# EAGLE library part VDEC-HIT18* (library mita-akiba)
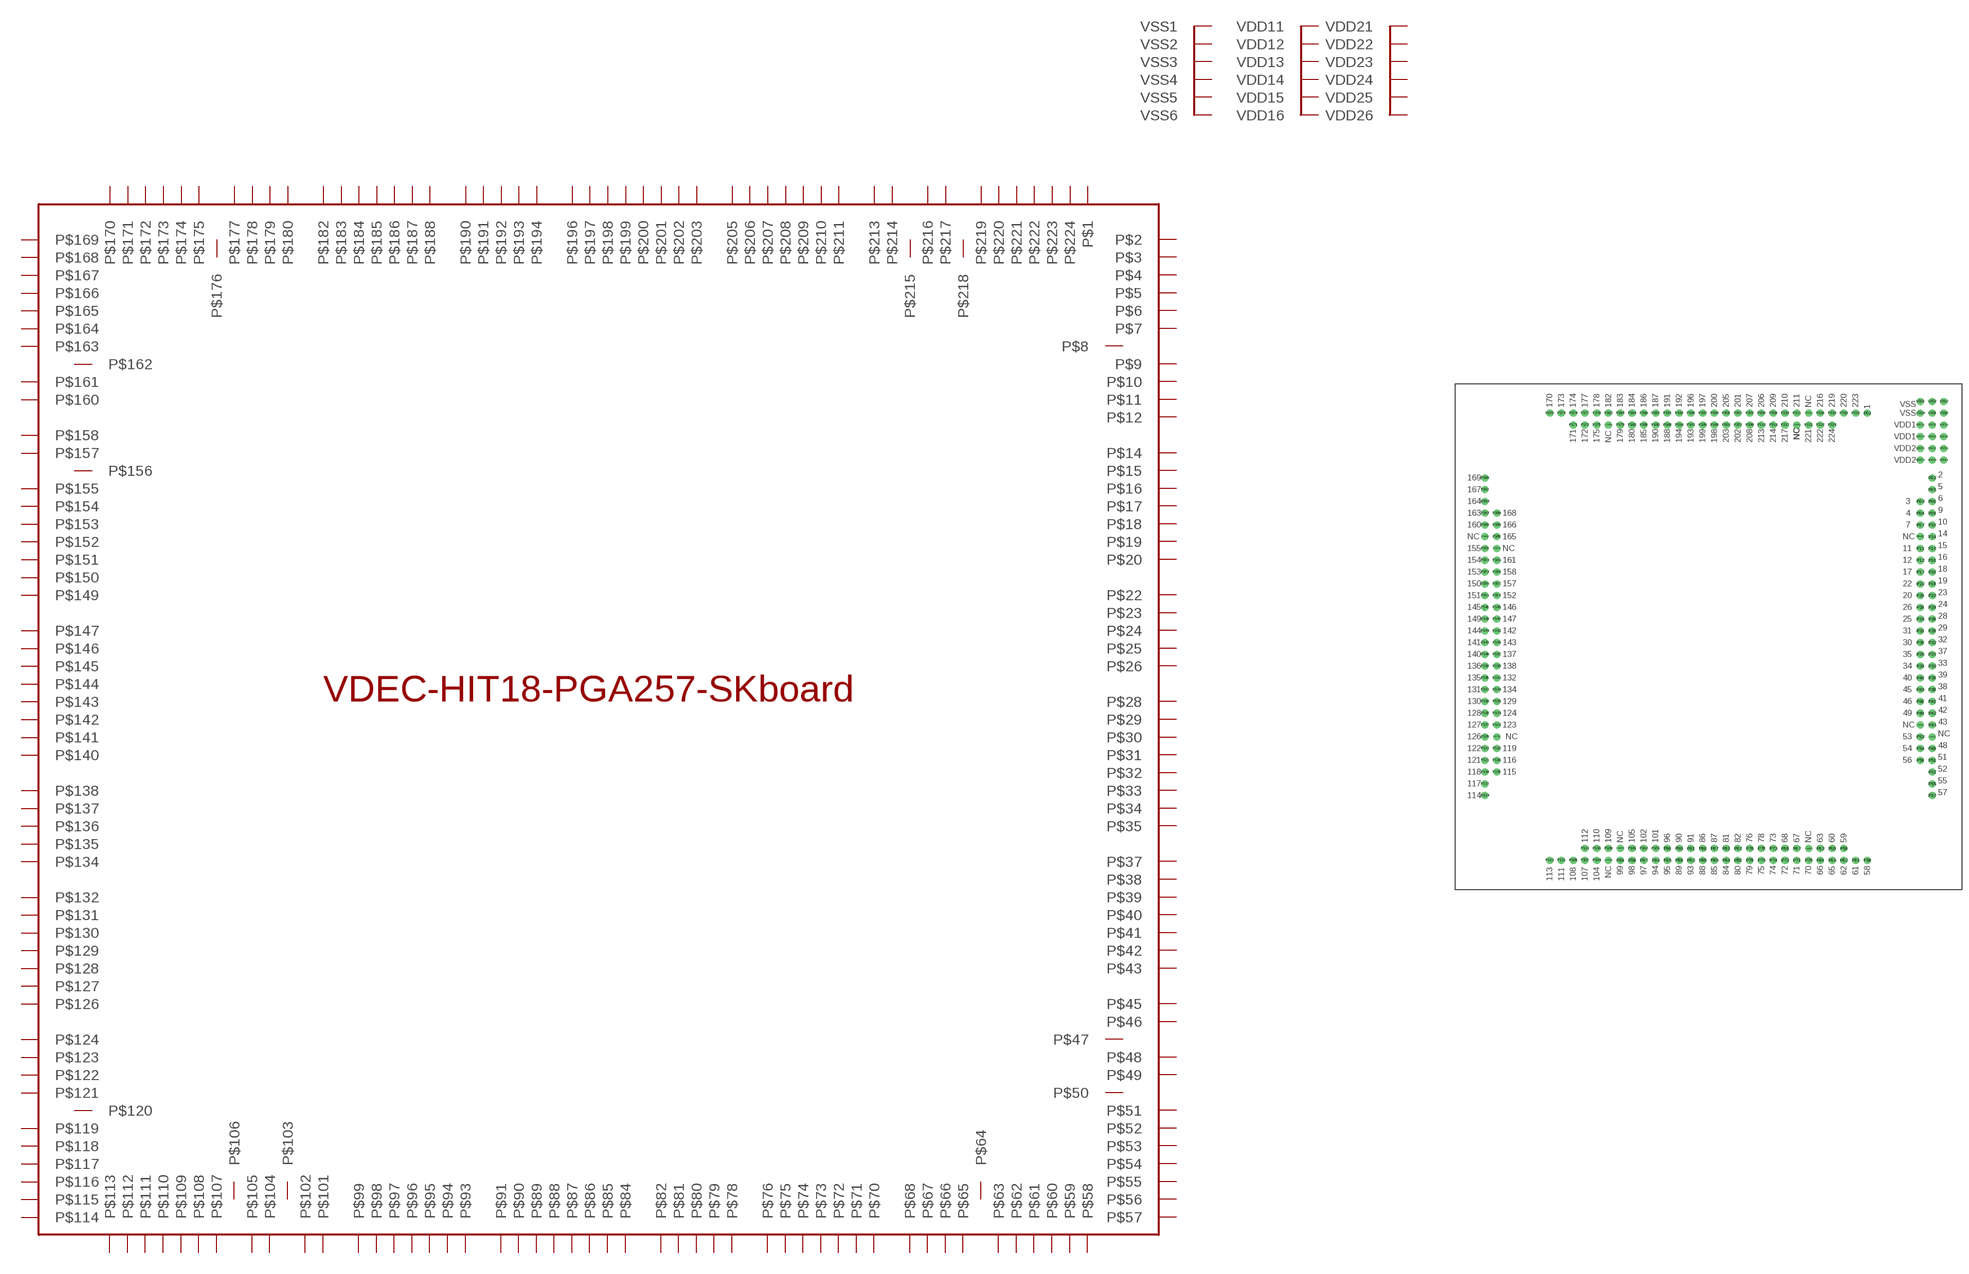
[diagram p37: symbol with the pads of VDEC-HIT18-257PGA-SK; footprint VDEC-HIT18-257PGA-SK]

Designator prefix -

## VDEC-HIT18PGA257-SK  [VDEC-HIT18-257PGA-SK]
P01  P$1
P02  P$2
P03  P$3
P04  P$4
P05  P$5
P06  P$6
P07  P$7
P8-NC  P$8  oc
P09  P$9
P10  P$10
P11  P$11
P12  P$12
P14  P$14
P15  P$15  oc
P16  P$16  oc
P17  P$17  oc
P18  P$18  oc
P19  P$19  oc
P20  P$20  oc
P22  P$22  oc
P23  P$23  oc
P24  P$24  oc
P25  P$25  oc
P26  P$26  oc
P28  P$28  oc
P29  P$29  oc
P30  P$30  oc
P31  P$31  oc
P32  P$32  oc
P33  P$33  oc
P34  P$34  oc
P35  P$35  oc
P37  P$37  oc
P38  P$38  oc
P39  P$39  oc
P40  P$40  oc
P41  P$41  oc
P42  P$42  oc
P43  P$43  oc
P45  P$45  oc
P46  P$46  oc
P47-NC  P$47  oc
P48  P$48  oc
P49  P$49  oc
P50-NC  P$50  oc
P51  P$51  oc
P52  P$52  oc
P53  P$53  oc
P54  P$54  oc
P55  P$55  oc
P56  P$56  oc
P57  P$57  oc
P58  P$58  oc
P59  P$59  oc
P60  P$60  oc
P61  P$61  oc
P62  P$62  oc
P63  P$63  oc
P64-NC  P$64  oc
P65  P$65  oc
P66  P$66  oc
P67  P$67  oc
P68  P$68  oc
P70  P$70  oc
P71  P$71  oc
P72  P$72  oc
P73  P$73  oc
P74  P$74  oc
P75  P$75  oc
P76  P$76  oc
P78  P$78  oc
P79  P$79  oc
P80  P$80  oc
P81  P$81  oc
P82  P$82  oc
P84  P$84  oc
P85  P$85  oc
P86  P$86  oc
P87  P$87  oc
P88  P$88  oc
P89  P$89  oc
P90  P$90  oc
P91  P$91  oc
P93  P$93  oc
P94  P$94  oc
P95  P$95  oc
P96  P$96  oc
P97  P$97  oc
P98  P$98  oc
P99  P$99  oc
P101  P$101  oc
P102  P$102  oc
P103-NC  P$103  oc
P104  P$104  oc
P105  P$105  oc
P106-NC  P$106  oc
P107  P$107  oc
P108  P$108  oc
P109  P$109  oc
P110  P$110  oc
P111  P$111  oc
P112  P$112  oc
P113  P$113  oc
P114  P$114  oc
P115  P$115  oc
P116  P$116  oc
P117  P$117  oc
P118  P$118  oc
P119  P$119  oc
P120-NC  P$120  oc
P121  P$121  oc
P122  P$122  oc
P123  P$123  oc
P124  P$124  oc
P126  P$126  oc
P127  P$127  oc
P128  P$128  oc
P129  P$129  oc
P130  P$130  oc
P131  P$131  oc
P132  P$132  oc
P134  P$134  oc
P135  P$135  oc
P136  P$136  oc
P137  P$137  oc
P138  P$138  oc
P140  P$140  oc
P141  P$141  oc
P142  P$142  oc
P143  P$143  oc
P144  P$144  oc
P145  P$145  oc
P146  P$146  oc
P147  P$147  oc
P149  P$149  oc
P150  P$150  oc
P151  P$151  oc
P152  P$152  oc
P153  P$153  oc
P154  P$154  oc
P155  P$155  oc
P156-NC  P$156  oc
P157  P$157  oc
P158  P$158  oc
P160  P$160  oc
P161  P$161  oc
P162-NC  P$162  oc
P163  P$163  oc
P164  P$164  oc
P165  P$165  oc
P166  P$166  oc
P167  P$167  oc
P168  P$168  oc
P169  P$169  oc
P170  P$170  oc
P171  P$171  oc
P172  P$172  oc
P173  P$173  oc
P174  P$174  oc
P175  P$175  oc
P176-NC  P$176  oc
P177  P$177  oc
P178  P$178  oc
P179  P$179  oc
P180  P$180  oc
P182  P$182  oc
P183  P$183  oc
P184  P$184  oc
P185  P$185  oc
P186  P$186  oc
P187  P$187  oc
P188  P$188  oc
P190  P$190  oc
P191  P$191  oc
P192  P$192  oc
P193  P$193  oc
P194  P$194  oc
P196  P$196  oc
P197  P$197  oc
P198  P$198  oc
P199  P$199  oc
P200  P$200  oc
P201  P$201  oc
P202  P$202  oc
P203  P$203  oc
P205  P$205  oc
P206  P$206  oc
P207  P$207  oc
P208  P$208  oc
P209  P$209  oc
P210  P$210  oc
P211  P$211  oc
P213  P$213  oc
P214  P$214  oc
P215-NC  P$215  oc
P216  P$216  oc
P217  P$217  oc
P218-NC  P$218  oc
P219  P$219  oc
P220  P$220  oc
P221  P$221  oc
P222  P$222  oc
P223  P$223  oc
P224  P$224  oc
VDD11  VDD11
VDD12  VDD12
VDD13  VDD13  oc
VDD14  VDD14  oc
VDD15  VDD15  oc
VDD16  VDD16  oc
VDD21  VDD21  oc
VDD22  VDD22  oc
VDD23  VDD23  oc
VDD24  VDD24  oc
VDD25  VDD25  oc
VDD26  VDD26  oc
VSS1  VSS1
VSS2  VSS2
VSS3  VSS3
VSS4  VSS4
VSS5  VSS5
VSS6  VSS6

## Footprint VDEC-HIT18-257PGA-SK (pad centres in mm)
HIT18 257PGA VDEC Standard pitch conversion board
drill 1.016: P01 34.29,48.26; P02 48.26,34.29; P03 45.72,29.21; P04 45.72,26.67; P05 48.26,31.75; P06 48.26,29.21; P07 45.72,24.13; P8-NC 45.72,21.59; P09 48.26,26.67; P10 48.26,24.13; P11 45.72,19.05; P12 45.72,16.51; P14 48.26,21.59; P15 48.26,19.05; P16 48.26,16.51; P17 45.72,13.97; P18 48.26,13.97; P19 48.26,11.43; P20 45.72,8.89; P22 45.72,11.43; P23 48.26,8.89; P24 48.26,6.35; P25 45.72,3.81; P26 45.72,6.35; P28 48.26,3.81; P29 48.26,1.27; P30 45.72,-1.27; P31 45.72,1.27; P32 48.26,-1.27; P33 48.26,-6.35; P34 45.72,-6.35; P35 45.72,-3.81; P37 48.26,-3.81; P38 48.26,-11.43; P39 48.26,-8.89; P40 45.72,-8.89; P41 48.26,-13.97; P42 48.26,-16.51; P43 48.26,-19.05; P45 45.72,-11.43; P46 45.72,-13.97; P47-NC 48.26,-21.59; P48 48.26,-24.13; P49 45.72,-16.51; P50-NC 45.72,-19.05; P51 48.26,-26.67; P52 48.26,-29.21; P53 45.72,-21.59; P54 45.72,-24.13; P55 48.26,-31.75; P56 45.72,-26.67; P57 48.26,-34.29; P58 34.29,-48.26; P59 29.21,-45.72; P60 26.67,-45.72; P61 31.75,-48.26; P62 29.21,-48.26; P63 24.13,-45.72; P64-NC 21.59,-45.72; P65 26.67,-48.26; P66 24.13,-48.26; P67 19.05,-45.72; P68 16.51,-45.72; P70 21.59,-48.26; P71 19.05,-48.26; P72 16.51,-48.26; P73 13.97,-45.72; P74 13.97,-48.26; P75 11.43,-48.26; P76 8.89,-45.72; P78 11.43,-45.72; P79 8.89,-48.26; P80 6.35,-48.26; P81 3.81,-45.72; P82 6.35,-45.72; P84 3.81,-48.26; P85 1.27,-48.26; P86 -1.27,-45.72; P87 1.27,-45.72; P88 -1.27,-48.26; P89 -6.35,-48.26; P90 -6.35,-45.72; P91 -3.81,-45.72; P93 -3.81,-48.26; P94 -11.43,-48.26; P95 -8.89,-48.26; P96 -8.89,-45.72; P97 -13.97,-48.26; P98 -16.51,-48.26; P99 -19.05,-48.26; P101 -11.43,-45.72; P102 -13.97,-45.72; P103-NC -21.59,-48.26; P104 -24.13,-48.26; P105 -16.51,-45.72; P106-NC -19.05,-45.72; P107 -26.67,-48.26; P108 -29.21,-48.26; P109 -21.59,-45.72; P110 -24.13,-45.72; P111 -31.75,-48.26; P112 -26.67,-45.72; P113 -34.29,-48.26; P114 -48.26,-34.29; P115 -45.72,-29.21; P116 -45.72,-26.67; P117 -48.26,-31.75; P118 -48.26,-29.21; P119 -45.72,-24.13; P120-NC -45.72,-21.59; P121 -48.26,-26.67; P122 -48.26,-24.13; P123 -45.72,-19.05; P124 -45.72,-16.51; P126 -48.26,-21.59; P127 -48.26,-19.05; P128 -48.26,-16.51; P129 -45.72,-13.97; P130 -48.26,-13.97; P131 -48.26,-11.43; P132 -45.72,-8.89; P134 -45.72,-11.43; P135 -48.26,-8.89; P136 -48.26,-6.35; P137 -45.72,-3.81; P138 -45.72,-6.35; P140 -48.26,-3.81; P141 -48.26,-1.27; P142 -45.72,1.27; P143 -45.72,-1.27; P144 -48.26,1.27; P145 -48.26,6.35; P146 -45.72,6.35; P147 -45.72,3.81; P149 -48.26,3.81; P150 -48.26,11.43; P151 -48.26,8.89; P152 -45.72,8.89; P153 -48.26,13.97; P154 -48.26,16.51; P155 -48.26,19.05; P156-NC -48.26,21.59; P157 -45.72,11.43; P158 -45.72,13.97; P160 -48.26,24.13; P161 -45.72,16.51; P162-NC -45.72,19.05; P163 -48.26,26.67; P164 -48.26,29.21; P165 -45.72,21.59; P166 -45.72,24.13; P167 -48.26,31.75; P168 -45.72,26.67; P169 -48.26,34.29; P170 -34.29,48.26; P171 -29.21,45.72; P172 -26.67,45.72; P173 -31.75,48.26; P174 -29.21,48.26; P175 -24.13,45.72; P176-NC -21.59,45.72; P177 -26.67,48.26; P178 -24.13,48.26; P179 -19.05,45.72; P180 -16.51,45.72; P182 -21.59,48.26; P183 -19.05,48.26; P184 -16.51,48.26; P185 -13.97,45.72; P186 -13.97,48.26; P187 -11.43,48.26; P188 -8.89,45.72; P190 -11.43,45.72; P191 -8.89,48.26; P192 -6.35,48.26; P193 -3.81,45.72; P194 -6.35,45.72; P196 -3.81,48.26; P197 -1.27,48.26; P198 1.27,45.72; P199 -1.27,45.72; P200 1.27,48.26; P201 6.35,48.26; P202 6.35,45.72; P203 3.81,45.72; P205 3.81,48.26; P206 11.43,48.26; P207 8.89,48.26; P208 8.89,45.72; P209 13.97,48.26; P210 16.51,48.26; P211 19.05,48.26; P213 11.43,45.72; P214 13.97,45.72; P215-NC 21.59,48.26; P216 24.13,48.26; P217 16.51,45.72; P218-NC 19.05,45.72; P219 26.67,48.26; P220 29.21,48.26; P221 21.59,45.72; P222 24.13,45.72; P223 31.75,48.26; P224 26.67,45.72; VDD11 45.72,45.72; VDD12 48.26,45.72; VDD13 50.8,45.72; VDD14 45.72,43.18; VDD15 48.26,43.18; VDD16 50.8,43.18; VDD21 45.72,40.64; VDD22 48.26,40.64; VDD23 50.8,40.64; VDD24 45.72,38.1; VDD25 48.26,38.1; VDD26 50.8,38.1; VSS1 45.72,50.8; VSS2 48.26,50.8; VSS3 50.8,50.8; VSS4 45.72,48.26; VSS5 48.26,48.26; VSS6 50.8,48.26